# EAGLE library part X__JST_SH_STEHEND_10 (library 16112011___connector)
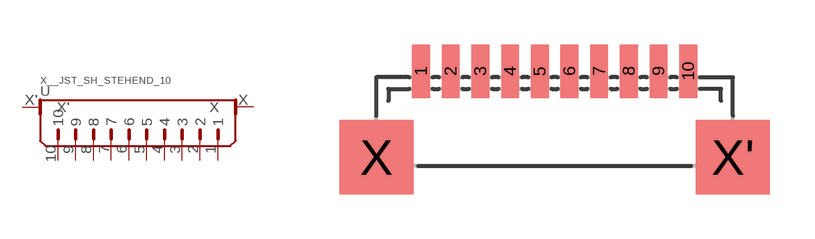
[diagram p41: symbol with the pads of JST_SH_STEHEND_10; footprint JST_SH_STEHEND_10]

Designator prefix -

## X__JST_SH_STEHEND_10  [JST_SH_STEHEND_10]
1  1
2  2
3  3
4  4
5  5
6  6
7  7
8  8
9  9
10  10
X  X
X'  X'

## Footprint JST_SH_STEHEND_10 (pad centres in mm)
smd 0.6 x 1.8: 1 0,0; 2 1,0; 3 2,0; 4 3,0; 5 4,0; 6 5,0; 7 6,0; 8 7,0; 9 8,0; 10 9,0
smd 2.5 x 2.5: X -1.5,-2.9; X' 10.5,-2.9